# Altium integrated library Linear Technology Power Management PMIC Multifunction.IntLib: 360 symbols (part 13 of 42)
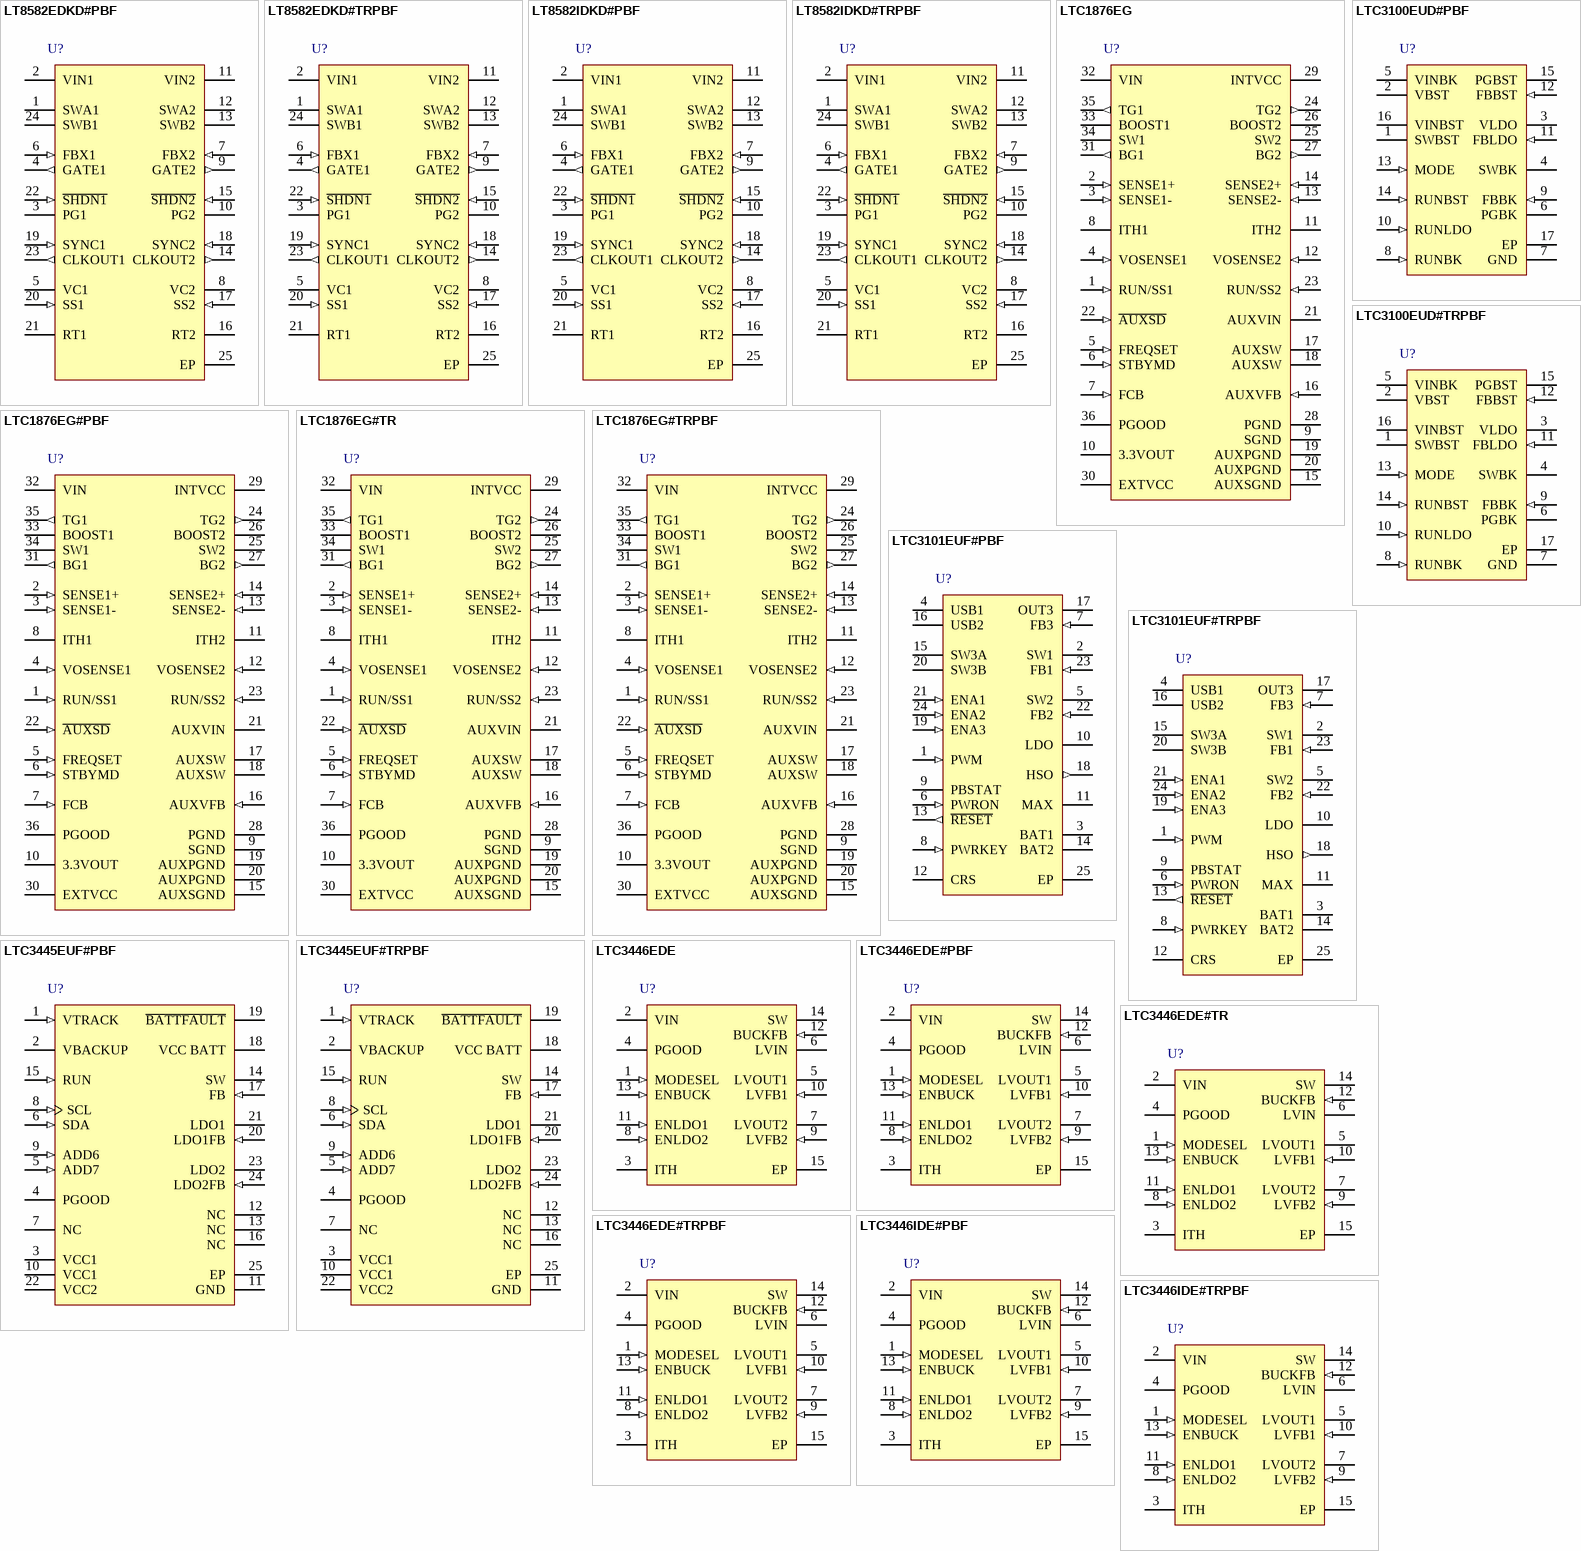
[diagram p30: symbols LT8582EDKD#PBF to LTC3446IDE#TRPBF]

## LTC3446EDE
designator U?
Monolithic Buck Regulator with Dual VLDO Regulator, 2.7 to 5.5 V Vin, 14-pin SON (DE-14), -45 to 125 degC; Manufacturer: Linear Technology; PartNumber: LTC3446EDE; Number of Outputs: 3; Vin Max(V): 5.5; Vin Min(V): 2.7; DatasheetVersion: Rev. F; PackageVersion: Rev. B, 06/2010; PackageReference: DE-14; PackageDescription: 14-Pin Plastic DFN, Body 4 x 3 mm, Pitch 0.5 mm; RoHS: FALSE; Mounting Technology: Surface Mount; Code_JEDEC: MO-229; ComponentLink1Description: Manufacturer URL; ComponentLink1URL: http://www.linear.com/; ComponentLink2Description: Datasheet; ComponentLink2URL: http://cds.linear.com/docs/en/datasheet/3446ff.pdf; ComponentLink3Description: Package Specification; ComponentLink3URL: http://www.linear.com/docs/en/packaging/DFN_14_05-08-1708.pdf
footprint LT-DE-14_V (SON, 14-Leads, Body 4x3mm, Pitch 0.5mm, Thermal Pad 3.3x1.7mm)
pins: 1 MODESEL (in) "Chooses Between Burst Mode Operation and Pulse-Skipping Operation at Light Loads. Forcing this pin below 0.3V allows the buck converter to automatically enter Burst Mode operation at light loads. Forcing this pin above 1V (See Datasheet)", 2 VIN (power) "Input Supply to the LTC3446. Must be closely decoupled to GND with a 10uF or greater ceramic capacitor.", 3 ITH "Buck Error Amplifier Output and Servo-Loop Compensation Point.", 4 PGOOD (oc) "Supply Monitor Output, Open-Drain NMOS", 5 LVOUT1 (power) "Output of the First VLDO Regulator", 6 LVIN (power) "Input Supply to the LTC3446’s VLDO Circuits. Bypass LVIN to GND with at least a 1uF low ESR ceramic capacitor. Typical LTC3446 application circuits will connect this pin to the output of the buck converter but this is no(See Datasheet)", 7 LVOUT2 (power) "Output of the Second VLDO Regulator", 8 ENLDO2 (in) "Enable Pin for the First and Second VLDO Regulators, Respectively. Forcing this pin above 1V enables the corresponding VLDO regulator and forcing this pin below 0.3V shuts it down. Each VLDO regulator draws <1uA of supply (See Datasheet)", 9 LVFB2 (in) "Feedback Pin for the Second VLDO Regulator. An output divider should be connected from LVOUT2 to LVFB2 to set the desired LVOUT2 regulated output voltage.", 10 LVFB1 (in) "Feedback Pin for the First VLDO Regulator. An output divider should be connected from LVOUT1 to LVFB1 to set the desired LVOUT1 regulated output voltage", 11 ENLDO1 (in) "Enable Pin for the First and Second VLDO Regulators, Respectively. Forcing this pin above 1V enables the corresponding VLDO regulator and forcing this pin below 0.3V shuts it down. Each VLDO regulator draws <1uA of supply (See Datasheet)", 12 BUCKFB (in) "Buck Converter’s Feedback Pin. Receives the feedback voltage from an external resistive divider across the output. External resistance from this pin to ground should be equal to or less than 50k.", 13 ENBUCK (in) "Enable Pin for the LTC3446’s Buck Converter Circuit. Forcing this pin above 1V enables the buck converter and forcing this pin below 0.3V shuts down the converter. In shutdown, the buck converter draws <1uA of suppl(See Datasheet)", 14 SW (power) "Switch Node Connection to Inductor. This pin connects to the drains of the internal main and synchronous power MOSFET switches.", 15 EP (power) "Ground. The Exposed Pad is the only ground and must connect to the PCB ground for electrical contact and rated thermal performance"

## LTC3446EDE#PBF
designator U?
Monolithic Buck Regulator with Dual VLDO Regulator, 2.7 to 5.5 V Vin, 14-pin SON (DE-14), -45 to 125 degC, Pb-Free; Manufacturer: Linear Technology; PartNumber: LTC3446EDE#PBF; Number of Outputs: 3; Vin Max(V): 5.5; Vin Min(V): 2.7; DatasheetVersion: Rev. F; PackageVersion: Rev. B, 06/2010; PackageReference: DE-14; PackageDescription: 14-Pin Plastic DFN, Body 4 x 3 mm, Pitch 0.5 mm; Supplier 1: Digi-Key; Supplier Part Number 1: LTC3446EDE#PBF-ND; Supplier 2: Farnell; Supplier Part Number 2: 2295065; Supplier 3: Newark; Supplier Part Number 3: 58M0749; RoHS: TRUE; Mounting Technology: Surface Mount; Code_JEDEC: MO-229; ComponentLink1Description: Manufacturer URL; ComponentLink1URL: http://www.linear.com/; ComponentLink2Description: Datasheet; ComponentLink2URL: http://cds.linear.com/docs/en/datasheet/3446ff.pdf; ComponentLink3Description: Package Specification; ComponentLink3URL: http://www.linear.com/docs/en/packaging/DFN_14_05-08-1708.pdf
footprint LT-DE-14_V (SON, 14-Leads, Body 4x3mm, Pitch 0.5mm, Thermal Pad 3.3x1.7mm)
pins: 1 MODESEL (in) "Chooses Between Burst Mode Operation and Pulse-Skipping Operation at Light Loads. Forcing this pin below 0.3V allows the buck converter to automatically enter Burst Mode operation at light loads. Forcing this pin above 1V (See Datasheet)", 2 VIN (power) "Input Supply to the LTC3446. Must be closely decoupled to GND with a 10uF or greater ceramic capacitor.", 3 ITH "Buck Error Amplifier Output and Servo-Loop Compensation Point.", 4 PGOOD (oc) "Supply Monitor Output, Open-Drain NMOS", 5 LVOUT1 (power) "Output of the First VLDO Regulator", 6 LVIN (power) "Input Supply to the LTC3446’s VLDO Circuits. Bypass LVIN to GND with at least a 1uF low ESR ceramic capacitor. Typical LTC3446 application circuits will connect this pin to the output of the buck converter but this is no(See Datasheet)", 7 LVOUT2 (power) "Output of the Second VLDO Regulator", 8 ENLDO2 (in) "Enable Pin for the First and Second VLDO Regulators, Respectively. Forcing this pin above 1V enables the corresponding VLDO regulator and forcing this pin below 0.3V shuts it down. Each VLDO regulator draws <1uA of supply (See Datasheet)", 9 LVFB2 (in) "Feedback Pin for the Second VLDO Regulator. An output divider should be connected from LVOUT2 to LVFB2 to set the desired LVOUT2 regulated output voltage.", 10 LVFB1 (in) "Feedback Pin for the First VLDO Regulator. An output divider should be connected from LVOUT1 to LVFB1 to set the desired LVOUT1 regulated output voltage", 11 ENLDO1 (in) "Enable Pin for the First and Second VLDO Regulators, Respectively. Forcing this pin above 1V enables the corresponding VLDO regulator and forcing this pin below 0.3V shuts it down. Each VLDO regulator draws <1uA of supply (See Datasheet)", 12 BUCKFB (in) "Buck Converter’s Feedback Pin. Receives the feedback voltage from an external resistive divider across the output. External resistance from this pin to ground should be equal to or less than 50k.", 13 ENBUCK (in) "Enable Pin for the LTC3446’s Buck Converter Circuit. Forcing this pin above 1V enables the buck converter and forcing this pin below 0.3V shuts down the converter. In shutdown, the buck converter draws <1uA of suppl(See Datasheet)", 14 SW (power) "Switch Node Connection to Inductor. This pin connects to the drains of the internal main and synchronous power MOSFET switches.", 15 EP (power) "Ground. The Exposed Pad is the only ground and must connect to the PCB ground for electrical contact and rated thermal performance"

## LTC3446EDE#TR
designator U?
Monolithic Buck Regulator with Dual VLDO Regulator, 2.7 to 5.5 V Vin, 14-pin SON (DE-14), -45 to 125 degC, Tape and Reel; Manufacturer: Linear Technology; PartNumber: LTC3446EDE#TR; Number of Outputs: 3; Vin Max(V): 5.5; Vin Min(V): 2.7; DatasheetVersion: Rev. F; PackageVersion: Rev. B, 06/2010; PackageReference: DE-14; PackageDescription: 14-Pin Plastic DFN, Body 4 x 3 mm, Pitch 0.5 mm; Packing: Tape and Reel; RoHS: FALSE; Mounting Technology: Surface Mount; Code_JEDEC: MO-229; ComponentLink1Description: Manufacturer URL; ComponentLink1URL: http://www.linear.com/; ComponentLink2Description: Datasheet; ComponentLink2URL: http://cds.linear.com/docs/en/datasheet/3446ff.pdf; ComponentLink3Description: Package Specification; ComponentLink3URL: http://www.linear.com/docs/en/packaging/DFN_14_05-08-1708.pdf
footprint LT-DE-14_V (SON, 14-Leads, Body 4x3mm, Pitch 0.5mm, Thermal Pad 3.3x1.7mm)
pins: 1 MODESEL (in) "Chooses Between Burst Mode Operation and Pulse-Skipping Operation at Light Loads. Forcing this pin below 0.3V allows the buck converter to automatically enter Burst Mode operation at light loads. Forcing this pin above 1V (See Datasheet)", 2 VIN (power) "Input Supply to the LTC3446. Must be closely decoupled to GND with a 10uF or greater ceramic capacitor.", 3 ITH "Buck Error Amplifier Output and Servo-Loop Compensation Point.", 4 PGOOD (oc) "Supply Monitor Output, Open-Drain NMOS", 5 LVOUT1 (power) "Output of the First VLDO Regulator", 6 LVIN (power) "Input Supply to the LTC3446’s VLDO Circuits. Bypass LVIN to GND with at least a 1uF low ESR ceramic capacitor. Typical LTC3446 application circuits will connect this pin to the output of the buck converter but this is no(See Datasheet)", 7 LVOUT2 (power) "Output of the Second VLDO Regulator", 8 ENLDO2 (in) "Enable Pin for the First and Second VLDO Regulators, Respectively. Forcing this pin above 1V enables the corresponding VLDO regulator and forcing this pin below 0.3V shuts it down. Each VLDO regulator draws <1uA of supply (See Datasheet)", 9 LVFB2 (in) "Feedback Pin for the Second VLDO Regulator. An output divider should be connected from LVOUT2 to LVFB2 to set the desired LVOUT2 regulated output voltage.", 10 LVFB1 (in) "Feedback Pin for the First VLDO Regulator. An output divider should be connected from LVOUT1 to LVFB1 to set the desired LVOUT1 regulated output voltage", 11 ENLDO1 (in) "Enable Pin for the First and Second VLDO Regulators, Respectively. Forcing this pin above 1V enables the corresponding VLDO regulator and forcing this pin below 0.3V shuts it down. Each VLDO regulator draws <1uA of supply (See Datasheet)", 12 BUCKFB (in) "Buck Converter’s Feedback Pin. Receives the feedback voltage from an external resistive divider across the output. External resistance from this pin to ground should be equal to or less than 50k.", 13 ENBUCK (in) "Enable Pin for the LTC3446’s Buck Converter Circuit. Forcing this pin above 1V enables the buck converter and forcing this pin below 0.3V shuts down the converter. In shutdown, the buck converter draws <1uA of suppl(See Datasheet)", 14 SW (power) "Switch Node Connection to Inductor. This pin connects to the drains of the internal main and synchronous power MOSFET switches.", 15 EP (power) "Ground. The Exposed Pad is the only ground and must connect to the PCB ground for electrical contact and rated thermal performance"

## LTC3446EDE#TRPBF
designator U?
Monolithic Buck Regulator with Dual VLDO Regulator, 2.7 to 5.5 V Vin, 14-pin SON (DE-14), -45 to 125 degC, Pb-Free, Tape and Reel; Manufacturer: Linear Technology; PartNumber: LTC3446EDE#TRPBF; Number of Outputs: 3; Vin Max(V): 5.5; Vin Min(V): 2.7; DatasheetVersion: Rev. F; PackageVersion: Rev. B, 06/2010; PackageReference: DE-14; PackageDescription: 14-Pin Plastic DFN, Body 4 x 3 mm, Pitch 0.5 mm; Supplier 1: Digi-Key; Supplier Part Number 1: LTC3446EDE#TRPBF-ND; Supplier 2: Newark; Supplier Part Number 2: 58M0751; Packing: Tape and Reel; RoHS: TRUE; Mounting Technology: Surface Mount; Code_JEDEC: MO-229; ComponentLink1Description: Manufacturer URL; ComponentLink1URL: http://www.linear.com/; ComponentLink2Description: Datasheet; ComponentLink2URL: http://cds.linear.com/docs/en/datasheet/3446ff.pdf; ComponentLink3Description: Package Specification; ComponentLink3URL: http://www.linear.com/docs/en/packaging/DFN_14_05-08-1708.pdf
footprint LT-DE-14_V (SON, 14-Leads, Body 4x3mm, Pitch 0.5mm, Thermal Pad 3.3x1.7mm)
pins: 1 MODESEL (in) "Chooses Between Burst Mode Operation and Pulse-Skipping Operation at Light Loads. Forcing this pin below 0.3V allows the buck converter to automatically enter Burst Mode operation at light loads. Forcing this pin above 1V (See Datasheet)", 2 VIN (power) "Input Supply to the LTC3446. Must be closely decoupled to GND with a 10uF or greater ceramic capacitor.", 3 ITH "Buck Error Amplifier Output and Servo-Loop Compensation Point.", 4 PGOOD (oc) "Supply Monitor Output, Open-Drain NMOS", 5 LVOUT1 (power) "Output of the First VLDO Regulator", 6 LVIN (power) "Input Supply to the LTC3446’s VLDO Circuits. Bypass LVIN to GND with at least a 1uF low ESR ceramic capacitor. Typical LTC3446 application circuits will connect this pin to the output of the buck converter but this is no(See Datasheet)", 7 LVOUT2 (power) "Output of the Second VLDO Regulator", 8 ENLDO2 (in) "Enable Pin for the First and Second VLDO Regulators, Respectively. Forcing this pin above 1V enables the corresponding VLDO regulator and forcing this pin below 0.3V shuts it down. Each VLDO regulator draws <1uA of supply (See Datasheet)", 9 LVFB2 (in) "Feedback Pin for the Second VLDO Regulator. An output divider should be connected from LVOUT2 to LVFB2 to set the desired LVOUT2 regulated output voltage.", 10 LVFB1 (in) "Feedback Pin for the First VLDO Regulator. An output divider should be connected from LVOUT1 to LVFB1 to set the desired LVOUT1 regulated output voltage", 11 ENLDO1 (in) "Enable Pin for the First and Second VLDO Regulators, Respectively. Forcing this pin above 1V enables the corresponding VLDO regulator and forcing this pin below 0.3V shuts it down. Each VLDO regulator draws <1uA of supply (See Datasheet)", 12 BUCKFB (in) "Buck Converter’s Feedback Pin. Receives the feedback voltage from an external resistive divider across the output. External resistance from this pin to ground should be equal to or less than 50k.", 13 ENBUCK (in) "Enable Pin for the LTC3446’s Buck Converter Circuit. Forcing this pin above 1V enables the buck converter and forcing this pin below 0.3V shuts down the converter. In shutdown, the buck converter draws <1uA of suppl(See Datasheet)", 14 SW (power) "Switch Node Connection to Inductor. This pin connects to the drains of the internal main and synchronous power MOSFET switches.", 15 EP (power) "Ground. The Exposed Pad is the only ground and must connect to the PCB ground for electrical contact and rated thermal performance"

## LTC3446IDE#PBF
designator U?
Monolithic Buck Regulator with Dual VLDO Regulator, 2.7 to 5.5 V Vin, 14-pin SON (DE-14), -45 to 125 degC, Pb-Free; Manufacturer: Linear Technology; PartNumber: LTC3446IDE#PBF; Number of Outputs: 3; Vin Max(V): 5.5; Vin Min(V): 2.7; DatasheetVersion: Rev. F; PackageVersion: Rev. B, 06/2010; PackageReference: DE-14; PackageDescription: 14-Pin Plastic DFN, Body 4 x 3 mm, Pitch 0.5 mm; Supplier 1: Digi-Key; Supplier Part Number 1: LTC3446IDE#PBF-ND; Supplier 2: Farnell; Supplier Part Number 2: 2295066; RoHS: TRUE; Mounting Technology: Surface Mount; Code_JEDEC: MO-229; ComponentLink1Description: Manufacturer URL; ComponentLink1URL: http://www.linear.com/; ComponentLink2Description: Datasheet; ComponentLink2URL: http://cds.linear.com/docs/en/datasheet/3446ff.pdf; ComponentLink3Description: Package Specification; ComponentLink3URL: http://www.linear.com/docs/en/packaging/DFN_14_05-08-1708.pdf
footprint LT-DE-14_V (SON, 14-Leads, Body 4x3mm, Pitch 0.5mm, Thermal Pad 3.3x1.7mm)
pins: 1 MODESEL (in) "Chooses Between Burst Mode Operation and Pulse-Skipping Operation at Light Loads. Forcing this pin below 0.3V allows the buck converter to automatically enter Burst Mode operation at light loads. Forcing this pin above 1V (See Datasheet)", 2 VIN (power) "Input Supply to the LTC3446. Must be closely decoupled to GND with a 10uF or greater ceramic capacitor.", 3 ITH "Buck Error Amplifier Output and Servo-Loop Compensation Point.", 4 PGOOD (oc) "Supply Monitor Output, Open-Drain NMOS", 5 LVOUT1 (power) "Output of the First VLDO Regulator", 6 LVIN (power) "Input Supply to the LTC3446’s VLDO Circuits. Bypass LVIN to GND with at least a 1uF low ESR ceramic capacitor. Typical LTC3446 application circuits will connect this pin to the output of the buck converter but this is no(See Datasheet)", 7 LVOUT2 (power) "Output of the Second VLDO Regulator", 8 ENLDO2 (in) "Enable Pin for the First and Second VLDO Regulators, Respectively. Forcing this pin above 1V enables the corresponding VLDO regulator and forcing this pin below 0.3V shuts it down. Each VLDO regulator draws <1uA of supply (See Datasheet)", 9 LVFB2 (in) "Feedback Pin for the Second VLDO Regulator. An output divider should be connected from LVOUT2 to LVFB2 to set the desired LVOUT2 regulated output voltage.", 10 LVFB1 (in) "Feedback Pin for the First VLDO Regulator. An output divider should be connected from LVOUT1 to LVFB1 to set the desired LVOUT1 regulated output voltage", 11 ENLDO1 (in) "Enable Pin for the First and Second VLDO Regulators, Respectively. Forcing this pin above 1V enables the corresponding VLDO regulator and forcing this pin below 0.3V shuts it down. Each VLDO regulator draws <1uA of supply (See Datasheet)", 12 BUCKFB (in) "Buck Converter’s Feedback Pin. Receives the feedback voltage from an external resistive divider across the output. External resistance from this pin to ground should be equal to or less than 50k.", 13 ENBUCK (in) "Enable Pin for the LTC3446’s Buck Converter Circuit. Forcing this pin above 1V enables the buck converter and forcing this pin below 0.3V shuts down the converter. In shutdown, the buck converter draws <1uA of suppl(See Datasheet)", 14 SW (power) "Switch Node Connection to Inductor. This pin connects to the drains of the internal main and synchronous power MOSFET switches.", 15 EP (power) "Ground. The Exposed Pad is the only ground and must connect to the PCB ground for electrical contact and rated thermal performance"

## LTC3446IDE#TRPBF
designator U?
Monolithic Buck Regulator with Dual VLDO Regulator, 2.7 to 5.5 V Vin, 14-pin SON (DE-14), -45 to 125 degC, Pb-Free, Tape and Reel; Manufacturer: Linear Technology; PartNumber: LTC3446IDE#TRPBF; Number of Outputs: 3; Vin Max(V): 5.5; Vin Min(V): 2.7; DatasheetVersion: Rev. F; PackageVersion: Rev. B, 06/2010; PackageReference: DE-14; PackageDescription: 14-Pin Plastic DFN, Body 4 x 3 mm, Pitch 0.5 mm; Supplier 1: Digi-Key; Supplier Part Number 1: LTC3446IDE#TRPBF-ND; Packing: Tape and Reel; RoHS: TRUE; Mounting Technology: Surface Mount; Code_JEDEC: MO-229; ComponentLink1Description: Manufacturer URL; ComponentLink1URL: http://www.linear.com/; ComponentLink2Description: Datasheet; ComponentLink2URL: http://cds.linear.com/docs/en/datasheet/3446ff.pdf; ComponentLink3Description: Package Specification; ComponentLink3URL: http://www.linear.com/docs/en/packaging/DFN_14_05-08-1708.pdf
footprint LT-DE-14_V (SON, 14-Leads, Body 4x3mm, Pitch 0.5mm, Thermal Pad 3.3x1.7mm)
pins: 1 MODESEL (in) "Chooses Between Burst Mode Operation and Pulse-Skipping Operation at Light Loads. Forcing this pin below 0.3V allows the buck converter to automatically enter Burst Mode operation at light loads. Forcing this pin above 1V (See Datasheet)", 2 VIN (power) "Input Supply to the LTC3446. Must be closely decoupled to GND with a 10uF or greater ceramic capacitor.", 3 ITH "Buck Error Amplifier Output and Servo-Loop Compensation Point.", 4 PGOOD (oc) "Supply Monitor Output, Open-Drain NMOS", 5 LVOUT1 (power) "Output of the First VLDO Regulator", 6 LVIN (power) "Input Supply to the LTC3446’s VLDO Circuits. Bypass LVIN to GND with at least a 1uF low ESR ceramic capacitor. Typical LTC3446 application circuits will connect this pin to the output of the buck converter but this is no(See Datasheet)", 7 LVOUT2 (power) "Output of the Second VLDO Regulator", 8 ENLDO2 (in) "Enable Pin for the First and Second VLDO Regulators, Respectively. Forcing this pin above 1V enables the corresponding VLDO regulator and forcing this pin below 0.3V shuts it down. Each VLDO regulator draws <1uA of supply (See Datasheet)", 9 LVFB2 (in) "Feedback Pin for the Second VLDO Regulator. An output divider should be connected from LVOUT2 to LVFB2 to set the desired LVOUT2 regulated output voltage.", 10 LVFB1 (in) "Feedback Pin for the First VLDO Regulator. An output divider should be connected from LVOUT1 to LVFB1 to set the desired LVOUT1 regulated output voltage", 11 ENLDO1 (in) "Enable Pin for the First and Second VLDO Regulators, Respectively. Forcing this pin above 1V enables the corresponding VLDO regulator and forcing this pin below 0.3V shuts it down. Each VLDO regulator draws <1uA of supply (See Datasheet)", 12 BUCKFB (in) "Buck Converter’s Feedback Pin. Receives the feedback voltage from an external resistive divider across the output. External resistance from this pin to ground should be equal to or less than 50k.", 13 ENBUCK (in) "Enable Pin for the LTC3446’s Buck Converter Circuit. Forcing this pin above 1V enables the buck converter and forcing this pin below 0.3V shuts down the converter. In shutdown, the buck converter draws <1uA of suppl(See Datasheet)", 14 SW (power) "Switch Node Connection to Inductor. This pin connects to the drains of the internal main and synchronous power MOSFET switches.", 15 EP (power) "Ground. The Exposed Pad is the only ground and must connect to the PCB ground for electrical contact and rated thermal performance"

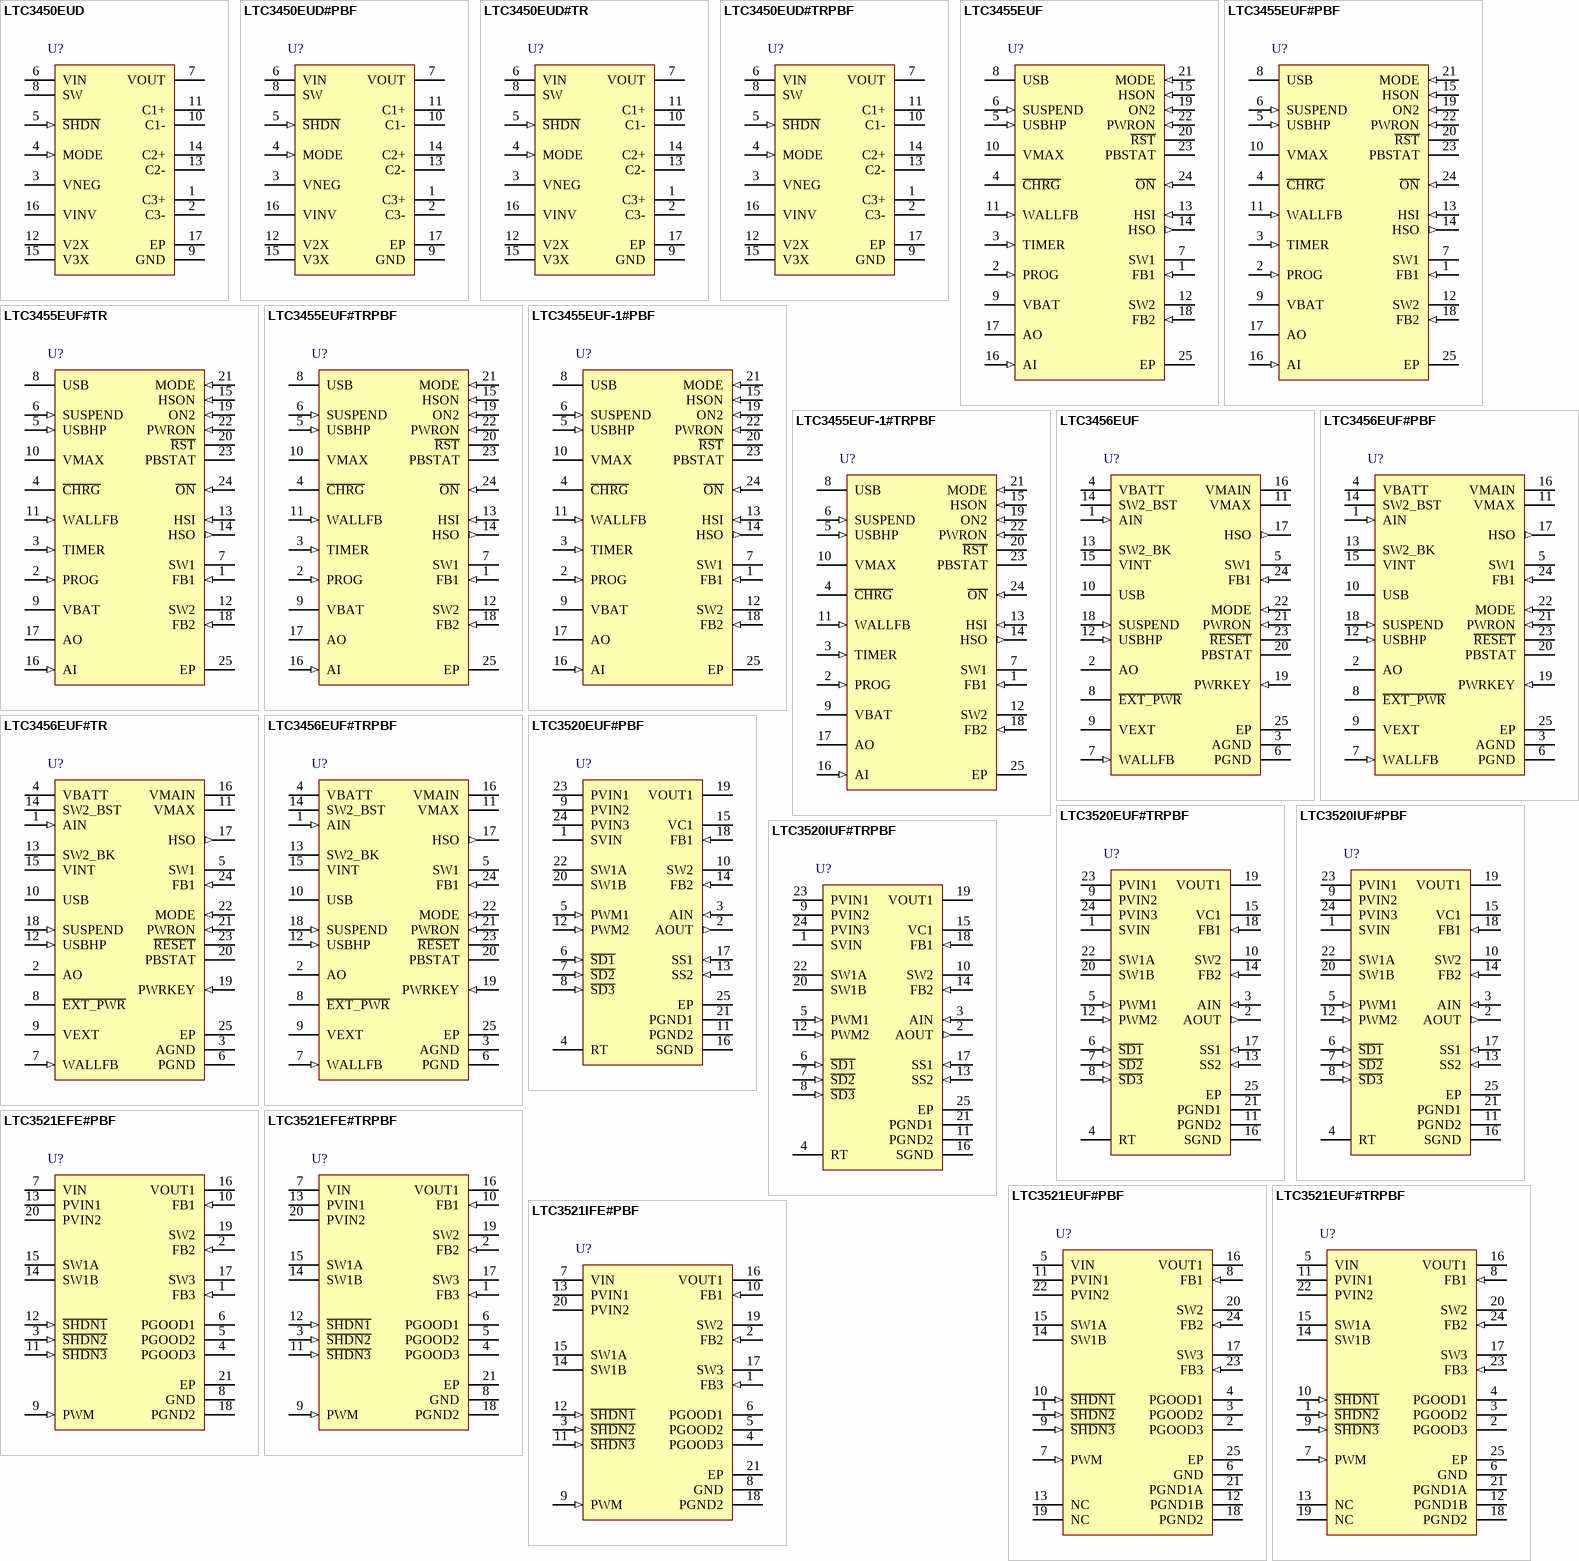
[diagram p6: symbols LTC3450EUD to LTC3521IFE#PBF]

## LTC3450EUD
designator U?
Triple Output Power Supply for Small TFT-LCD Displays, 1.5 to 4.6 V Vin, 16-pin QFN (UD-16), -40 to 85 degC; Manufacturer: Linear Technology; PartNumber: LTC3450EUD; Number of Outputs: 3; Vin Max(V): 4.6; Vin Min(V): 1.5; DatasheetVersion: Rev. A; PackageVersion: Jun-10; PackageReference: UD-16; PackageDescription: 16-Pin Plastic QFN, Body 3 x 3 mm, Pitch 0.5 mm; Supplier 1: Digi-Key; Supplier Part Number 1: LTC3450EUD-ND; RoHS: FALSE; Mounting Technology: Surface Mount; Code_JEDEC: MO-220; ComponentLink1Description: Manufacturer URL; ComponentLink1URL: http://www.linear.com/; ComponentLink2Description: Datasheet; ComponentLink2URL: http://cds.linear.com/docs/en/datasheet/3450fa.pdf; ComponentLink3Description: Package Specification; ComponentLink3URL: http://cds.linear.com/docs/en/packaging/QFN_16_05-08-1691.pdf
footprint LT-UD-16_N (QFN, 16-Leads, Body 3x3mm, Pitch 0.5mm, Thermal Pad 1.45x1.45mm, IPC Medium Density)
footprint LT-UD-16_L (QFN, 16-Leads, Body 3x3mm, Pitch 0.5mm, Thermal Pad 1.45x1.45mm, IPC High Density)
footprint LT-UD-16_M (QFN, 16-Leads, Body 3x3mm, Pitch 0.5mm, Thermal Pad 1.45x1.45mm, IPC Low Density)
pins: 1 C3+ "Charge Pump Inverter Flying Capacitor Positive Node. The charge pump inverter flying capacitor is connected between C3+ and C3-. The voltage on C3+ will alternate between GND and VINV at an approximate 50% duty cycle while (See Datasheet)", 2 C3- "Charge Pump Inverter Flying Capacitor Positive Node. The charge pump inverter flying capacitor is connected between C3+ and C3-. The voltage on C3- will alternate between GND and VINV at an approximate 50% duty cycle while (See Datasheet)", 3 VNEG (power) "Charge Pump Inverter Output. VNEG can be either - 5 V or -10 V depending on where VINV is connected. VNEG should be bypassed to GND with at 0.1uF or larger X5R type ceramic capacitor. VNEG can also be configured for -15V (See Datasheet)", 4 MODE (in) "Drive MODE high to force the LTC3450 into high power (scan) mode. Drive MODE low to force the LTC3450 into low power (blank) mode. The output voltages remain active with the MODE pin driven low but with reduced output (See Datasheet)", 5 ~{SHDN} (in) "Master Shutdown Input for the LTC3450. Driving S\H\D\N\ low disables all IC functions and reduces quiescent current from the battery to less than 2 uA. Each generated output voltage is actively discharged to GND in shutdown (See Datasheet)", 6 VIN (power) "Input Supply to the LTC3450. Connect VIN to a voltage source between 1.5V and 4.6V. Bypass VIN to GND with a 2.2 uF X5R ceramic capacitor.", 7 VOUT (power) "Main 5.1 V Output of the Boost Regulator and Input to the Voltage Doubler Stage. Bypass VOUT with a low ESR, ESL ceramic capacitor (X5R type) between 2.2 uF and 10 uF.", 8 SW "Switch Pin. Connect the inductor between SW and VIN. Keep PCB trace lengths as short and wide as possible to reduce EMI and voltage overshoot. If the inductor current falls to zero, the internal P-channel MOSFET synchronous (See Datasheet)", 9 GND (power) "Signal and Power Ground for the LTC3450. Provide a short direct PCB path between GND and the output filter capacitor(s) on VOUT, V2X, V3X and VNEG.", 10 C1- "Charge Pump Doubler Flying Capacitor Negative Node. The charge pump doubler flying capacitor is connected between C1+ and C1-. The voltage on C1- will alternate between GND and VOUT at an approximate 50% duty cycle while the (See Datasheet)", 11 C1+ "Charge Pump Doubler Flying Capacitor Negative Node. The charge pump doubler flying capacitor is connected between C1+ and C1-. The voltage on C1+ will alternate between GND and VOUT at an approximate 50% duty cycle while the (See Datasheet)", 12 V2X (power) "Charge Pump Doubler Output. This output is 10.2 V (nom) at no load and is capable of delivering up to 500 uA to a load. V2X should be bypassed to GND with a 0.47 uF X5R type ceramic capacitor.", 13 C2- "Charge Pump Tripler Flying Capacitor Negative Node. The charge pump tripler flying capacitor is connected between C2+ and C2-. The voltage on C2- will alternate between GND and VOUT at an approximate 50% duty cycle while the (See Datasheet)", 14 C2+ "Charge Pump Tripler Flying Capacitor Negative Node. The charge pump tripler flying capacitor is connected between C2+ and C2-. The voltage on C2+ will alternate between GND and VOUT at an approximate 50% duty cycle while the (See Datasheet)", 15 V3X (power) "Charge Pump Tripler Output. This output is 15.3 V (nom) at no load and is capable of delivering up to 500 uA to a load. V3X should be bypassed to GND with a 0.1 uF X5R type ceramic capacitor.", 16 VINV (power) "Positive Voltage Input for the Charge Pump Inverter. The charge pump inverter will generate a negative voltage corresponding to the voltage applied to VINV. Connecting VINV to 5V or 10V will generate -5V or -10V respectively (See Datasheet)", 17 EP (power) "The exposed pad must be connected to VNEG (Pin 3) on the PCB. Do not connect the exposed pad to GND."

## LTC3450EUD#PBF
designator U?
Triple Output Power Supply for Small TFT-LCD Displays, 1.5 to 4.6 V Vin, 16-pin QFN (UD-16), -40 to 85 degC, Pb-Free; Manufacturer: Linear Technology; PartNumber: LTC3450EUD#PBF; Number of Outputs: 3; Vin Max(V): 4.6; Vin Min(V): 1.5; DatasheetVersion: Rev. A; PackageVersion: Jun-10; PackageReference: UD-16; PackageDescription: 16-Pin Plastic QFN, Body 3 x 3 mm, Pitch 0.5 mm; Supplier 1: Digi-Key; Supplier Part Number 1: LTC3450EUD#PBF-ND; Supplier 2: Newark; Supplier Part Number 2: 56M7835; RoHS: TRUE; Mounting Technology: Surface Mount; Code_JEDEC: MO-220; ComponentLink1Description: Manufacturer URL; ComponentLink1URL: http://www.linear.com/; ComponentLink2Description: Datasheet; ComponentLink2URL: http://cds.linear.com/docs/en/datasheet/3450fa.pdf; ComponentLink3Description: Package Specification; ComponentLink3URL: http://cds.linear.com/docs/en/packaging/QFN_16_05-08-1691.pdf
footprint LT-UD-16_N (QFN, 16-Leads, Body 3x3mm, Pitch 0.5mm, Thermal Pad 1.45x1.45mm, IPC Medium Density)
footprint LT-UD-16_L (QFN, 16-Leads, Body 3x3mm, Pitch 0.5mm, Thermal Pad 1.45x1.45mm, IPC High Density)
footprint LT-UD-16_M (QFN, 16-Leads, Body 3x3mm, Pitch 0.5mm, Thermal Pad 1.45x1.45mm, IPC Low Density)
pins: 1 C3+ "Charge Pump Inverter Flying Capacitor Positive Node. The charge pump inverter flying capacitor is connected between C3+ and C3-. The voltage on C3+ will alternate between GND and VINV at an approximate 50% duty cycle while (See Datasheet)", 2 C3- "Charge Pump Inverter Flying Capacitor Positive Node. The charge pump inverter flying capacitor is connected between C3+ and C3-. The voltage on C3- will alternate between GND and VINV at an approximate 50% duty cycle while (See Datasheet)", 3 VNEG (power) "Charge Pump Inverter Output. VNEG can be either - 5 V or -10 V depending on where VINV is connected. VNEG should be bypassed to GND with at 0.1uF or larger X5R type ceramic capacitor. VNEG can also be configured for -15V (See Datasheet)", 4 MODE (in) "Drive MODE high to force the LTC3450 into high power (scan) mode. Drive MODE low to force the LTC3450 into low power (blank) mode. The output voltages remain active with the MODE pin driven low but with reduced output (See Datasheet)", 5 ~{SHDN} (in) "Master Shutdown Input for the LTC3450. Driving S\H\D\N\ low disables all IC functions and reduces quiescent current from the battery to less than 2 uA. Each generated output voltage is actively discharged to GND in shutdown (See Datasheet)", 6 VIN (power) "Input Supply to the LTC3450. Connect VIN to a voltage source between 1.5V and 4.6V. Bypass VIN to GND with a 2.2 uF X5R ceramic capacitor.", 7 VOUT (power) "Main 5.1 V Output of the Boost Regulator and Input to the Voltage Doubler Stage. Bypass VOUT with a low ESR, ESL ceramic capacitor (X5R type) between 2.2 uF and 10 uF.", 8 SW "Switch Pin. Connect the inductor between SW and VIN. Keep PCB trace lengths as short and wide as possible to reduce EMI and voltage overshoot. If the inductor current falls to zero, the internal P-channel MOSFET synchronous (See Datasheet)", 9 GND (power) "Signal and Power Ground for the LTC3450. Provide a short direct PCB path between GND and the output filter capacitor(s) on VOUT, V2X, V3X and VNEG.", 10 C1- "Charge Pump Doubler Flying Capacitor Negative Node. The charge pump doubler flying capacitor is connected between C1+ and C1-. The voltage on C1- will alternate between GND and VOUT at an approximate 50% duty cycle while the (See Datasheet)", 11 C1+ "Charge Pump Doubler Flying Capacitor Negative Node. The charge pump doubler flying capacitor is connected between C1+ and C1-. The voltage on C1+ will alternate between GND and VOUT at an approximate 50% duty cycle while the (See Datasheet)", 12 V2X (power) "Charge Pump Doubler Output. This output is 10.2 V (nom) at no load and is capable of delivering up to 500 uA to a load. V2X should be bypassed to GND with a 0.47 uF X5R type ceramic capacitor.", 13 C2- "Charge Pump Tripler Flying Capacitor Negative Node. The charge pump tripler flying capacitor is connected between C2+ and C2-. The voltage on C2- will alternate between GND and VOUT at an approximate 50% duty cycle while the (See Datasheet)", 14 C2+ "Charge Pump Tripler Flying Capacitor Negative Node. The charge pump tripler flying capacitor is connected between C2+ and C2-. The voltage on C2+ will alternate between GND and VOUT at an approximate 50% duty cycle while the (See Datasheet)", 15 V3X (power) "Charge Pump Tripler Output. This output is 15.3 V (nom) at no load and is capable of delivering up to 500 uA to a load. V3X should be bypassed to GND with a 0.1 uF X5R type ceramic capacitor.", 16 VINV (power) "Positive Voltage Input for the Charge Pump Inverter. The charge pump inverter will generate a negative voltage corresponding to the voltage applied to VINV. Connecting VINV to 5V or 10V will generate -5V or -10V respectively (See Datasheet)", 17 EP (power) "The exposed pad must be connected to VNEG (Pin 3) on the PCB. Do not connect the exposed pad to GND."

## LTC3450EUD#TR
designator U?
Triple Output Power Supply for Small TFT-LCD Displays, 1.5 to 4.6 V Vin, 16-pin QFN (UD-16), -40 to 85 degC, Tape and Reel; Manufacturer: Linear Technology; PartNumber: LTC3450EUD#TR; Number of Outputs: 3; Vin Max(V): 4.6; Vin Min(V): 1.5; DatasheetVersion: Rev. A; PackageVersion: Jun-10; PackageReference: UD-16; PackageDescription: 16-Pin Plastic QFN, Body 3 x 3 mm, Pitch 0.5 mm; Supplier 1: Digi-Key; Supplier Part Number 1: LTC3450EUD#TR-ND; Packing: Tape and Reel; RoHS: FALSE; Mounting Technology: Surface Mount; Code_JEDEC: MO-220; ComponentLink1Description: Manufacturer URL; ComponentLink1URL: http://www.linear.com/; ComponentLink2Description: Datasheet; ComponentLink2URL: http://cds.linear.com/docs/en/datasheet/3450fa.pdf; ComponentLink3Description: Package Specification; ComponentLink3URL: http://cds.linear.com/docs/en/packaging/QFN_16_05-08-1691.pdf
footprint LT-UD-16_N (QFN, 16-Leads, Body 3x3mm, Pitch 0.5mm, Thermal Pad 1.45x1.45mm, IPC Medium Density)
footprint LT-UD-16_L (QFN, 16-Leads, Body 3x3mm, Pitch 0.5mm, Thermal Pad 1.45x1.45mm, IPC High Density)
footprint LT-UD-16_M (QFN, 16-Leads, Body 3x3mm, Pitch 0.5mm, Thermal Pad 1.45x1.45mm, IPC Low Density)
pins: 1 C3+ "Charge Pump Inverter Flying Capacitor Positive Node. The charge pump inverter flying capacitor is connected between C3+ and C3-. The voltage on C3+ will alternate between GND and VINV at an approximate 50% duty cycle while (See Datasheet)", 2 C3- "Charge Pump Inverter Flying Capacitor Positive Node. The charge pump inverter flying capacitor is connected between C3+ and C3-. The voltage on C3- will alternate between GND and VINV at an approximate 50% duty cycle while (See Datasheet)", 3 VNEG (power) "Charge Pump Inverter Output. VNEG can be either - 5 V or -10 V depending on where VINV is connected. VNEG should be bypassed to GND with at 0.1uF or larger X5R type ceramic capacitor. VNEG can also be configured for -15V (See Datasheet)", 4 MODE (in) "Drive MODE high to force the LTC3450 into high power (scan) mode. Drive MODE low to force the LTC3450 into low power (blank) mode. The output voltages remain active with the MODE pin driven low but with reduced output (See Datasheet)", 5 ~{SHDN} (in) "Master Shutdown Input for the LTC3450. Driving S\H\D\N\ low disables all IC functions and reduces quiescent current from the battery to less than 2 uA. Each generated output voltage is actively discharged to GND in shutdown (See Datasheet)", 6 VIN (power) "Input Supply to the LTC3450. Connect VIN to a voltage source between 1.5V and 4.6V. Bypass VIN to GND with a 2.2 uF X5R ceramic capacitor.", 7 VOUT (power) "Main 5.1 V Output of the Boost Regulator and Input to the Voltage Doubler Stage. Bypass VOUT with a low ESR, ESL ceramic capacitor (X5R type) between 2.2 uF and 10 uF.", 8 SW "Switch Pin. Connect the inductor between SW and VIN. Keep PCB trace lengths as short and wide as possible to reduce EMI and voltage overshoot. If the inductor current falls to zero, the internal P-channel MOSFET synchronous (See Datasheet)", 9 GND (power) "Signal and Power Ground for the LTC3450. Provide a short direct PCB path between GND and the output filter capacitor(s) on VOUT, V2X, V3X and VNEG.", 10 C1- "Charge Pump Doubler Flying Capacitor Negative Node. The charge pump doubler flying capacitor is connected between C1+ and C1-. The voltage on C1- will alternate between GND and VOUT at an approximate 50% duty cycle while the (See Datasheet)", 11 C1+ "Charge Pump Doubler Flying Capacitor Negative Node. The charge pump doubler flying capacitor is connected between C1+ and C1-. The voltage on C1+ will alternate between GND and VOUT at an approximate 50% duty cycle while the (See Datasheet)", 12 V2X (power) "Charge Pump Doubler Output. This output is 10.2 V (nom) at no load and is capable of delivering up to 500 uA to a load. V2X should be bypassed to GND with a 0.47 uF X5R type ceramic capacitor.", 13 C2- "Charge Pump Tripler Flying Capacitor Negative Node. The charge pump tripler flying capacitor is connected between C2+ and C2-. The voltage on C2- will alternate between GND and VOUT at an approximate 50% duty cycle while the (See Datasheet)", 14 C2+ "Charge Pump Tripler Flying Capacitor Negative Node. The charge pump tripler flying capacitor is connected between C2+ and C2-. The voltage on C2+ will alternate between GND and VOUT at an approximate 50% duty cycle while the (See Datasheet)", 15 V3X (power) "Charge Pump Tripler Output. This output is 15.3 V (nom) at no load and is capable of delivering up to 500 uA to a load. V3X should be bypassed to GND with a 0.1 uF X5R type ceramic capacitor.", 16 VINV (power) "Positive Voltage Input for the Charge Pump Inverter. The charge pump inverter will generate a negative voltage corresponding to the voltage applied to VINV. Connecting VINV to 5V or 10V will generate -5V or -10V respectively (See Datasheet)", 17 EP (power) "The exposed pad must be connected to VNEG (Pin 3) on the PCB. Do not connect the exposed pad to GND."

## LTC3450EUD#TRPBF
designator U?
Triple Output Power Supply for Small TFT-LCD Displays, 1.5 to 4.6 V Vin, 16-pin QFN (UD-16), -40 to 85 degC, Pb-Free, Tape and Reel; Manufacturer: Linear Technology; PartNumber: LTC3450EUD#TRPBF; Number of Outputs: 3; Vin Max(V): 4.6; Vin Min(V): 1.5; DatasheetVersion: Rev. A; PackageVersion: Jun-10; PackageReference: UD-16; PackageDescription: 16-Pin Plastic QFN, Body 3 x 3 mm, Pitch 0.5 mm; Supplier 1: Digi-Key; Supplier Part Number 1: LTC3450EUD#TRPBF-ND; Supplier 2: Newark; Supplier Part Number 2: 56M7837; Packing: Tape and Reel; RoHS: TRUE; Mounting Technology: Surface Mount; Code_JEDEC: MO-220; ComponentLink1Description: Manufacturer URL; ComponentLink1URL: http://www.linear.com/; ComponentLink2Description: Datasheet; ComponentLink2URL: http://cds.linear.com/docs/en/datasheet/3450fa.pdf; ComponentLink3Description: Package Specification; ComponentLink3URL: http://cds.linear.com/docs/en/packaging/QFN_16_05-08-1691.pdf
footprint LT-UD-16_N (QFN, 16-Leads, Body 3x3mm, Pitch 0.5mm, Thermal Pad 1.45x1.45mm, IPC Medium Density)
footprint LT-UD-16_L (QFN, 16-Leads, Body 3x3mm, Pitch 0.5mm, Thermal Pad 1.45x1.45mm, IPC High Density)
footprint LT-UD-16_M (QFN, 16-Leads, Body 3x3mm, Pitch 0.5mm, Thermal Pad 1.45x1.45mm, IPC Low Density)
pins: 1 C3+ "Charge Pump Inverter Flying Capacitor Positive Node. The charge pump inverter flying capacitor is connected between C3+ and C3-. The voltage on C3+ will alternate between GND and VINV at an approximate 50% duty cycle while (See Datasheet)", 2 C3- "Charge Pump Inverter Flying Capacitor Positive Node. The charge pump inverter flying capacitor is connected between C3+ and C3-. The voltage on C3- will alternate between GND and VINV at an approximate 50% duty cycle while (See Datasheet)", 3 VNEG (power) "Charge Pump Inverter Output. VNEG can be either - 5 V or -10 V depending on where VINV is connected. VNEG should be bypassed to GND with at 0.1uF or larger X5R type ceramic capacitor. VNEG can also be configured for -15V (See Datasheet)", 4 MODE (in) "Drive MODE high to force the LTC3450 into high power (scan) mode. Drive MODE low to force the LTC3450 into low power (blank) mode. The output voltages remain active with the MODE pin driven low but with reduced output (See Datasheet)", 5 ~{SHDN} (in) "Master Shutdown Input for the LTC3450. Driving S\H\D\N\ low disables all IC functions and reduces quiescent current from the battery to less than 2 uA. Each generated output voltage is actively discharged to GND in shutdown (See Datasheet)", 6 VIN (power) "Input Supply to the LTC3450. Connect VIN to a voltage source between 1.5V and 4.6V. Bypass VIN to GND with a 2.2 uF X5R ceramic capacitor.", 7 VOUT (power) "Main 5.1 V Output of the Boost Regulator and Input to the Voltage Doubler Stage. Bypass VOUT with a low ESR, ESL ceramic capacitor (X5R type) between 2.2 uF and 10 uF.", 8 SW "Switch Pin. Connect the inductor between SW and VIN. Keep PCB trace lengths as short and wide as possible to reduce EMI and voltage overshoot. If the inductor current falls to zero, the internal P-channel MOSFET synchronous (See Datasheet)", 9 GND (power) "Signal and Power Ground for the LTC3450. Provide a short direct PCB path between GND and the output filter capacitor(s) on VOUT, V2X, V3X and VNEG.", 10 C1- "Charge Pump Doubler Flying Capacitor Negative Node. The charge pump doubler flying capacitor is connected between C1+ and C1-. The voltage on C1- will alternate between GND and VOUT at an approximate 50% duty cycle while the (See Datasheet)", 11 C1+ "Charge Pump Doubler Flying Capacitor Negative Node. The charge pump doubler flying capacitor is connected between C1+ and C1-. The voltage on C1+ will alternate between GND and VOUT at an approximate 50% duty cycle while the (See Datasheet)", 12 V2X (power) "Charge Pump Doubler Output. This output is 10.2 V (nom) at no load and is capable of delivering up to 500 uA to a load. V2X should be bypassed to GND with a 0.47 uF X5R type ceramic capacitor.", 13 C2- "Charge Pump Tripler Flying Capacitor Negative Node. The charge pump tripler flying capacitor is connected between C2+ and C2-. The voltage on C2- will alternate between GND and VOUT at an approximate 50% duty cycle while the (See Datasheet)", 14 C2+ "Charge Pump Tripler Flying Capacitor Negative Node. The charge pump tripler flying capacitor is connected between C2+ and C2-. The voltage on C2+ will alternate between GND and VOUT at an approximate 50% duty cycle while the (See Datasheet)", 15 V3X (power) "Charge Pump Tripler Output. This output is 15.3 V (nom) at no load and is capable of delivering up to 500 uA to a load. V3X should be bypassed to GND with a 0.1 uF X5R type ceramic capacitor.", 16 VINV (power) "Positive Voltage Input for the Charge Pump Inverter. The charge pump inverter will generate a negative voltage corresponding to the voltage applied to VINV. Connecting VINV to 5V or 10V will generate -5V or -10V respectively (See Datasheet)", 17 EP (power) "The exposed pad must be connected to VNEG (Pin 3) on the PCB. Do not connect the exposed pad to GND."

## LTC3455EUF
designator U?
Dual DC/DC Converter with USB Power Manager and Li-Ion Battery Charger, 4.3 to 5.5 V Vin, 24-pin QFN (UF-24), -40 to 85 degC; Manufacturer: Linear Technology; PartNumber: LTC3455EUF; Number of Cells: 1; Number of Outputs: 2; Vin Max(V): 5.5; Vin Min(V): 4.3; DatasheetVersion: Rev. C; PackageVersion: Rev. B, 02/2012; PackageReference: UF24; PackageDescription: 24-Pin Plastic QFN, Body 4 x 4 mm, Pitch 0.5 mm; Supplier 1: Digi-Key; Supplier Part Number 1: LTC3455EUF-ND; RoHS: FALSE; Mounting Technology: Surface Mount; Code_JEDEC: MO-220; ComponentLink1Description: Manufacturer URL; ComponentLink1URL: http://www.linear.com/; ComponentLink2Description: Datasheet; ComponentLink2URL: http://cds.linear.com/docs/en/datasheet/3455fc.pdf; ComponentLink3Description: Package Specification; ComponentLink3URL: http://cds.linear.com/docs/en/packaging/%28UF24%29%20QFN%2005-08-1697%20Rev%20B.pdf
footprint LT-UF-24_N (QFN, 24-Leads, Body 4.1x4.1mm, Pitch 0.5mm, Thermal Pad 2.45x2.45mm, IPC Medium Density)
footprint LT-UF-24_L (QFN, 24-Leads, Body 4.1x4.1mm, Pitch 0.5mm, Thermal Pad 2.45x2.45mm, IPC High Density)
footprint LT-UF-24_M (QFN, 24-Leads, Body 4.1x4.1mm, Pitch 0.5mm, Thermal Pad 2.45x2.45mm, IPC Low Density)
pins: 1 FB1 (in) "Feedback Pin for Switcher 1. Set the output voltage by connecting feedback resistors to this pin.", 2 PROG (in) "Charge Current Program and Charge Current Monitor Pin. Connect a resistor, RPROG, from this pin to ground to program battery charge current. IBAT = 1000 • 1.23V / RPROG. In all modes the voltage on the PROG pin can be use(See Datasheet)", 3 TIMER (in) "Timer Capacitor Pin. Connect a capacitor, CTIMER, between this pin and ground to set the charge cycle termination time. The timer starts when USB or wall  power is ?rst present. The timer period is: TTIMER (hours) = CTIME(See Datasheet)", 4 ~{CHRG} (hiz) "Open-Drain Charge Status Pin. This pin is pulled low with an internal N-channel MOSFET whenever the battery charger is enabled, and is forced into a high impedance state whenever it is disabled.", 5 USBHP (in) "USB High Power Mode Pin. This pin is used to select the appropriate USB current limit (either 500mA or 100mA). Pull high to select 500mA (high power mode); low to select 100mA (low power mode).", 6 SUSPEND (in) "USB Suspend Pin. When this pin is pulled high, the internal USB power controller is disabled and the USB pin current reduces to less than 20uA.", 7 SW1 (power) "Switch Pin for Switcher 1. Minimize the length of the metal trace connected to this pin. Place the inductor for Switcher 1 as close to this pin as possible.", 8 USB (power) "USB Supply Pin. Input current into this pin is limited to either 100mA or 500mA based on the state of the USBHP pin. The charger and Switcher 1 will remain alive whenever USB power is present (when USB pin is above 3.9V and (See Datasheet)", 9 VBAT (power) "Battery Input Pin. Bypass this pin with a capacitor as close to the device as possible.", 10 VMAX (power) "Max Voltage Pin. This pin is used to power the two internal step-down DC/DC converters and  is provided externally to power other devices (i.e. LDOs or Switchers for LCD bias, white LED backlight drive, etc). When the (See Datasheet)", 11 WALLFB (in) "Wall Power Detection Pin. This pin is the input to a comparator used to signal the presence of a 5V wall adapter. A resistor divider taken from the wall adapter input is connected to this pin to tell the LTC3455/LTC3455-1  (See Datasheet)", 12 SW2 (power) "Switch Pin for Switcher 2. Minimize the length of the metal trace connected to this pin. Place the inductor for Switcher 2 as close to this pin as possible.", 13 HSI (in) "Hot Swap Input Pin. This pin is connected to the HSO pin through a current-limited PMOS switch.", 14 HSO (out) "Hot Swap Output Pin. This output is used for memory cards or other devices that would appear as a short if they were hot-plugged directly to one of the outputs (typically the 3.3V output). The current out of this pin is (See Datasheet)", 15 HSON (in) "Hot Swap Enable Pin. This pin turns on the PMOS that connects the HSI and HSO pins.", 16 AI (in) "Gain Block Input Pin. This pin is the inverting input to an ampli?er that can be used as a low-battery detector or as an LDO with the addition of an external  PNP or PMOS. The non-inverting input of the gain block i(See Datasheet)", 17 AO (oc) "Gain Block Output Pin. This pin is an open-drain output, and is pulled low when the AI pin is less than 800mV. This output can be used as a low-battery detector, or as an LDO with the addition of an external PNP or PMOS. (See Datasheet)", 18 FB2 (in) "Feedback Pin for Switcher 2. Set the output voltage by connecting feedback resistors to this pin.", 19 ON2 (in) "Enable Pin for Switcher 2. This pin turns on Switcher 2 only if O\N\ is low or PWRON is high. Switcher 2 cannot be turned on by itself.", 20 ~{RST} (oc) "Reset Pin. This pin is an open-drain output that provides a 200ms reset signal during power-up to initialize a microcontroller.", 21 MODE (in) "Burst Mode Enable Pin. Tie this pin high to allow Burst Mode operation for the LTC3455/LTC3455-1. Burst Mode operation will provide superior ef?ciency when both outputs are operating with very low output currents. Tie thi(See Datasheet)", 22 PWRON (in) "Power-On Pin. Pull this pin high to turn on the LTC3455/LTC3455-1. This pin is typically used in conjunction with the O\N\ and PBSTAT pins, and a momentary-on switch. Tie PWRON to ground if not used.", 23 PBSTAT (oc) "Push-Button Status Pin. This pin is an open drain output that indicates the state of the O\N\ pin (which is usually connected to a momentary-on push-button) to the microcontroller. This pin follows the state of the O\N\ pin (See Datasheet)", 24 ~{ON} (in) "O\N\ Pin. Pull this pin to ground to turn on the LTC3455/LTC3455-1. This pin is typically used with a momentary-on push-button switch to turn on the LTC3455/LTC3455-1. This pin would be held low until the PWRON pin is pulled (See Datasheet)", 25 EP (power) "Ground Pin. The exposed backside pad is the only ground pin for the LTC3455/LTC3455-1 and must be soldered to the PC board ground plane for the device to operate properly."